# Altium footprint library discrete.PcbLib: 4 footprints
Each footprint in its own frame and in the unit in brackets; x right, y up, seen from the top. Pads: shape width x height; smd on the part's side, far side on the other; paste and mask are expansions set on the pad; w line width, h text height; cw(c..) or ccw(c..) is an arc to the next point about the centre after c.
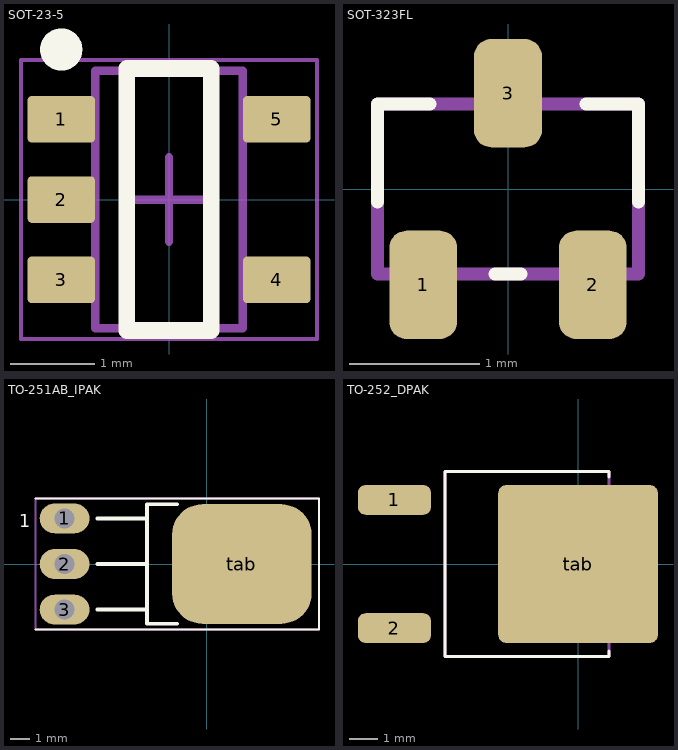
[diagram p0: the footprints below, top view; thin cyan lines are the x and y axes]

## SOT-23-5 [mm] "SOT23, 5-Leads, Body 3.05x1.75mm, Pitch 0.95mm, IPC High Density"
height 1.45
pads (5):
  rrect18% 0.8x0.55 smd: 1(-1.275,0.95) 2(-1.275,0) 3(-1.275,-0.95) 4(1.275,-0.95) 5(1.275,0.95)
Top Overlay:
  circle w0.25: c-1.275,1.775 r0.125
  lines w0.2: -0.5,-1.55 0.5,-1.55 0.5,1.55 -0.5,1.55 -0.5,-1.55
Top Assembly:
  lines w0.1: -0.875,-1.525 -0.875,1.525 0.875,1.525 0.875,-1.525 -0.875,-1.525
  text ".Designator" at -1.999,-0.133 h0.4
Top Courtyard:
  lines w0.05: -1.75,-1.65 -1.75,1.65 1.75,1.65 1.75,-1.65 -1.75,-1.65
  lines w0.1: -0.5,0 0.5,0 ; 0,-0.5 0,0.5
3D body "DBV0005AaksMF05A.stp": height 1.08, standoff -0.01, extent -1.422,-1.461 1.422,1.46

## SOT-323FL [mm]
pads (3):
  rrect50% 0.52x0.83 smd mask+0.1: 1(-0.65,-0.735) 2(0.65,-0.735) 3(0,0.735)
Top Overlay:
  lines w0.1: -1,-0.1 -1,0.65 -0.6,0.65 ; -0.1,-0.65 0.1,-0.65 ; 0.6,0.65 1,0.65 1,-0.1
Top Assembly:
  lines w0.1: -1,-0.65 1,-0.65 1,0.65 -1,0.65 -1,-0.65
  text "'.Designator'" at -3.037,-1 h0.5
3D body "UMT3F.step": height 0.9, standoff -0.01, extent -1,-1.05 1,1.05

## TO-251AB_IPAK [mm]
pads (4):
  oval 2.5x1.5 hole 1 mask+0.1: 1(-7.15,2.29) 2(-7.15,0) 3(-7.15,-2.29)
  rrect50% 7x6 smd mask+0.1: tab(1.75,0)
Top Overlay:
  lines w0.1: -8.6,-3.3 5.625,-3.3 5.625,3.3 -8.6,3.3
  lines w0.2: -5.5,-2.29 -3,-2.29 ; -5.5,0 -3,0 ; -5.5,2.29 -3,2.29 ; -1.5,-3 -3,-3 -3,3 -1.5,3
  text "1" at -9.437,1.848 h0.64
Top Assembly:
  lines w0.1: -8.6,-3.3 5.625,-3.3 5.625,3.3 -8.6,3.3 -8.6,-3.3
  text "'.Designator'" at -6.998,-1 h1
3D body "JEDEC_TO-251AA_IPAK-BR.STEP": height 2.39, standoff -4.06, extent -7.417,-3.249 4.115,3.249

## TO-252_DPAK [mm]
pads (3):
  rrect50% 2.6x1.06 smd mask+0.1: 1(-6.55,2.286) 2(-6.55,-2.286)
  rrect10% 5.7x5.632 smd mask+0.1: tab(0,0)
Top Overlay:
  lines w0.1: 1.1,-3.1 1.1,-3.3 -4.75,-3.3 -4.75,3.3 1.1,3.3 1.1,3.1
Top Assembly:
  lines w0.1: -4.75,-3.3 -4.75,3.3 1.1,3.3 1.1,-3.3 -4.75,-3.3
  text "'.Designator'" at -5.915,-1 h1
3D body "AOD1N60.STEP": height 2.61, standoff 0.01, extent -7.569,-3.302 2.464,3.302